# EAGLE library part Z8002 (library oldchips)
16-bit CPU Zilog
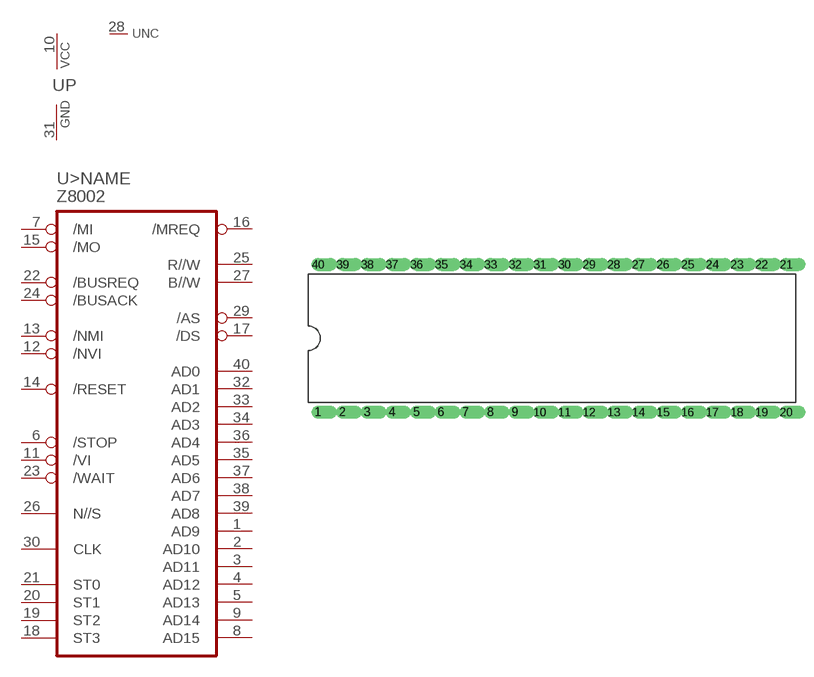
[diagram p17: symbol with the pads of DIL40; footprint DIL40]

Designator prefix U; gates >NAME=Z8002 P=PWRN NC=NC

## Z8002  [DIL40]
1  >NAME:AD9
2  >NAME:AD10
3  >NAME:AD11
4  >NAME:AD12
5  >NAME:AD13
6  >NAME:/STOP  in
7  >NAME:/MI  in
8  >NAME:AD15
9  >NAME:AD14
10  P:VCC  pwr
11  >NAME:/VI  in
12  >NAME:/NVI  in
13  >NAME:/NMI  in
14  >NAME:/RESET  in
15  >NAME:/MO  out
16  >NAME:/MREQ  out
17  >NAME:/DS  out
18  >NAME:ST3  out
19  >NAME:ST2  out
20  >NAME:ST1  out
21  >NAME:ST0  out
22  >NAME:/BUSREQ  in
23  >NAME:/WAIT  in
24  >NAME:/BUSACK  out
25  >NAME:R//W  out
26  >NAME:N//S  out
27  >NAME:B//W  out
28  NC:NC  nc
29  >NAME:/AS  out
30  >NAME:CLK  in
31  P:GND  pwr
32  >NAME:AD1
33  >NAME:AD2
34  >NAME:AD3
35  >NAME:AD5
36  >NAME:AD4
37  >NAME:AD6
38  >NAME:AD7
39  >NAME:AD8
40  >NAME:AD0

## Footprint DIL40 (pad centres in mm)
Dual In Line
drill 0.813 offset: 1 -24.13,-7.62; 2 -21.59,-7.62; 3 -19.05,-7.62; 4 -16.51,-7.62; 5 -13.97,-7.62; 6 -11.43,-7.62; 7 -8.89,-7.62; 8 -6.35,-7.62; 9 -3.81,-7.62; 10 -1.27,-7.62; 11 1.27,-7.62; 12 3.81,-7.62; 13 6.35,-7.62; 14 8.89,-7.62; 15 11.43,-7.62; 16 13.97,-7.62; 17 16.51,-7.62; 18 19.05,-7.62; 19 21.59,-7.62; 20 24.13,-7.62; 21 24.13,7.62; 22 21.59,7.62; 23 19.05,7.62; 24 16.51,7.62; 25 13.97,7.62; 26 11.43,7.62; 27 8.89,7.62; 28 6.35,7.62; 29 3.81,7.62; 30 1.27,7.62; 31 -1.27,7.62; 32 -3.81,7.62; 33 -6.35,7.62; 34 -8.89,7.62; 35 -11.43,7.62; 36 -13.97,7.62; 37 -16.51,7.62; 38 -19.05,7.62; 39 -21.59,7.62; 40 -24.13,7.62